# Altium integrated library BMP390L.IntLib: 1 symbol
Pins are listed as number, name and electrical type; pins without a type are passive.

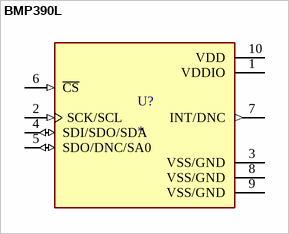
[diagram p0: symbol BMP390L]

## BMP390L
designator U?
Pressure Sensor 4.35PSI ~ 18.13PSI (30kPa ~ 125kPa) Absolute - - 10-WFLGA; MF: Bosch Sensortec; MP: BMP390L; SnapEDA_Link: https://www.snapeda.com/parts/BMP390L/Bosch+Sensortec/view-part/?ref=snap; Package: None; Value: *; Check_prices: https://www.snapeda.com/parts/BMP390L/Bosch+Sensortec/view-part/?ref=eda
footprint XDCR_BMP390L
pins: 1 VDDIO (power), 2 SCK/SCL (in), 3 VSS/GND (power), 4 SDI/SDO/SDA (io), 5 SDO/DNC/SA0 (io), 6 ~{CS} (in), 7 INT/DNC (out), 8 VSS/GND (power), 9 VSS/GND (power), 10 VDD (power)